# EAGLE library part M68882PLCC (library 030Card)
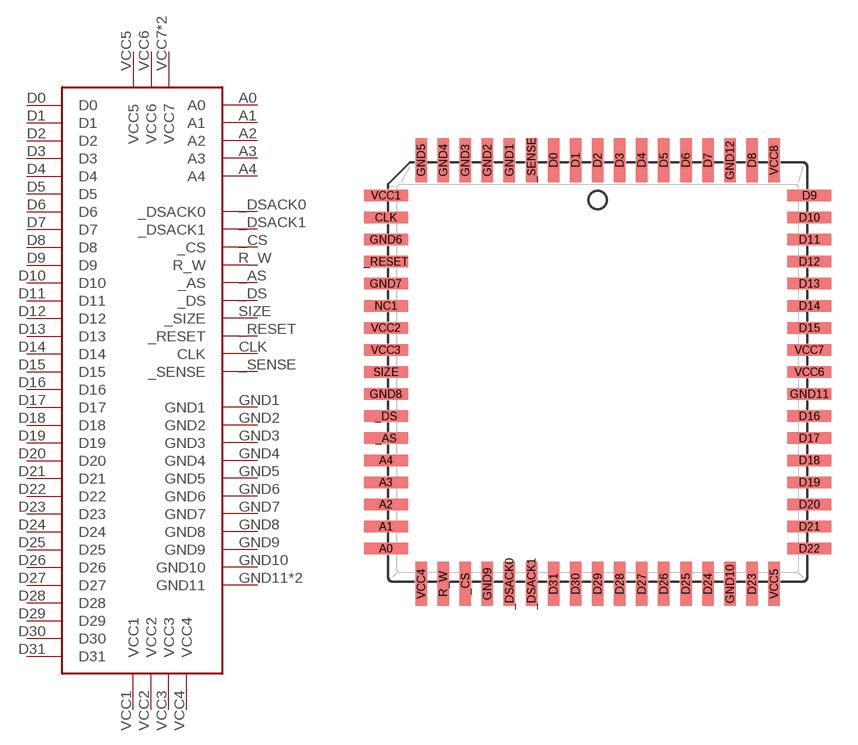
[diagram p4: symbol with the pads of M68882PLCC; footprint M68882PLCC]

Designator prefix -

## M68882PLCC  [M68882PLCC]
_AS  _AS
_CS  _CS
_DS  _DS
_DSACK0  _DSACK0
_DSACK1  _DSACK1
_RESET  _RESET
_SENSE  _SENSE
A0  A0
A1  A1
A2  A2
A3  A3
A4  A4
CLK  CLK
D0  D0
D1  D1
D2  D2
D3  D3
D4  D4
D5  D5
D6  D6
D7  D7
D8  D8
D9  D9
D10  D10
D11  D11
D12  D12
D13  D13
D14  D14
D15  D15
D16  D16
D17  D17
D18  D18
D19  D19
D20  D20
D21  D21
D22  D22
D23  D23
D24  D24
D25  D25
D26  D26
D27  D27
D28  D28
D29  D29
D30  D30
D31  D31
GND1  GND1
GND2  GND2
GND3  GND3
GND4  GND4
GND5  GND5
GND6  GND6
GND7  GND7
GND8  GND8
GND9  GND9
GND10  GND10
GND11  GND11
GND12  GND11
R_W  R_W
SIZE  _SIZE
VCC1  VCC1
VCC2  VCC2
VCC3  VCC3
VCC4  VCC4
VCC5  VCC5
VCC6  VCC6
VCC7  VCC7
VCC8  VCC7

## Footprint M68882PLCC (pad centres in mm)
Plastic Leaded Chip Carrier
smd 2.54 x 0.66: _AS -12.192,-3.81; _DS -12.192,-2.54; _RESET -12.192,6.35; A0 -12.192,-10.16; A1 -12.192,-8.89; A2 -12.192,-7.62; A3 -12.192,-6.35; A4 -12.192,-5.08; CLK -12.192,8.89; D9 12.192,10.16; D10 12.192,8.89; D11 12.192,7.62; D12 12.192,6.35; D13 12.192,5.08; D14 12.192,3.81; D15 12.192,2.54; D16 12.192,-2.54; D17 12.192,-3.81; D18 12.192,-5.08; D19 12.192,-6.35; D20 12.192,-7.62; D21 12.192,-8.89; D22 12.192,-10.16; GND6 -12.192,7.62; GND7 -12.192,5.08; GND8 -12.192,-1.27; GND11 12.192,-1.27; NC1 -12.192,3.81; SIZE -12.192,0; VCC1 -12.192,10.16; VCC2 -12.192,2.54; VCC3 -12.192,1.27; VCC6 12.192,0; VCC7 12.192,1.27
smd 0.66 x 2.54: _CS -7.62,-12.192; _DSACK0 -5.08,-12.192; _DSACK1 -3.81,-12.192; _SENSE -3.81,12.192; D0 -2.54,12.192; D1 -1.27,12.192; D2 0,12.192; D3 1.27,12.192; D4 2.54,12.192; D5 3.81,12.192; D6 5.08,12.192; D7 6.35,12.192; D8 8.89,12.192; D23 8.89,-12.192; D24 6.35,-12.192; D25 5.08,-12.192; D26 3.81,-12.192; D27 2.54,-12.192; D28 1.27,-12.192; D29 0,-12.192; D30 -1.27,-12.192; D31 -2.54,-12.192; GND1 -5.08,12.192; GND2 -6.35,12.192; GND3 -7.62,12.192; GND4 -8.89,12.192; GND5 -10.16,12.192; GND9 -6.35,-12.192; GND10 7.62,-12.192; GND12 7.62,12.192; R_W -8.89,-12.192; VCC4 -10.16,-12.192; VCC5 10.16,-12.192; VCC8 10.16,12.192